# EAGLE library part 691309410008 (library Terminal_Blocks_Connectors_rev15e)
WR - TBL Serie 3094 - 7.62mm Reversed Gender Horizontal PCB Header , 8 pins=>Code : Con_TBL_Pluggable_7.62_PCB_H_691309410008 <http://katalog.we-online.de/media/images/eican/Con_TBL_Pluggable_7.62_PCB_H_6913094100xx_pf2.jpg> Details see: http://katalog.we-online.de/en/em/691_309_410_0xx Created 2014-06-25, Karrer Zheng 2014 (C) Würth Elektronik
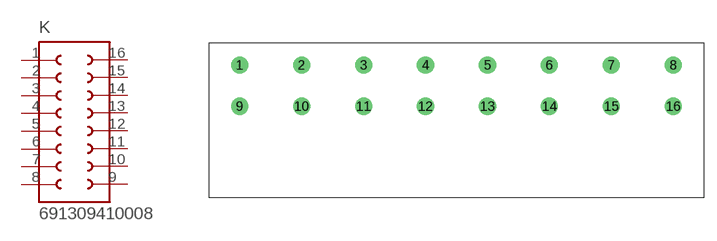
[diagram p196: symbol with the pads of 691309410008; footprint 691309410008]

Designator prefix K

## 691309410008  [691309410008]
1  1  pas
2  2  pas
3  3  pas
4  4  pas
5  5  pas
6  6  pas
7  7  pas
8  8  pas
9  9  pas
10  10  pas
11  11  pas
12  12  pas
13  13  pas
14  14  pas
15  15  pas
16  16  pas

## Footprint 691309410008 (pad centres in mm)
WR - TBL Serie 3094 - 7.62mm Reversed Gender Horizontal PCB Header , 8 pins
drill 1.4: 1 -30.48,0; 2 -22.86,0; 3 -15.24,0; 4 -7.62,0; 5 0,0; 6 7.62,0; 7 15.24,0; 8 22.86,0; 9 -30.48,-5.08; 10 -22.86,-5.08; 11 -15.24,-5.08; 12 -7.62,-5.08; 13 0,-5.08; 14 7.62,-5.08; 15 15.24,-5.08; 16 22.86,-5.08